# EAGLE library part OPA1644AID (library OPA1644AID)
OPA1641/1642/1644 SoundPLUS High-Performance, JFET-Input Audio OpAmps Source: Datasheet <http://www.ti.com/lit/gpn/opa1644>
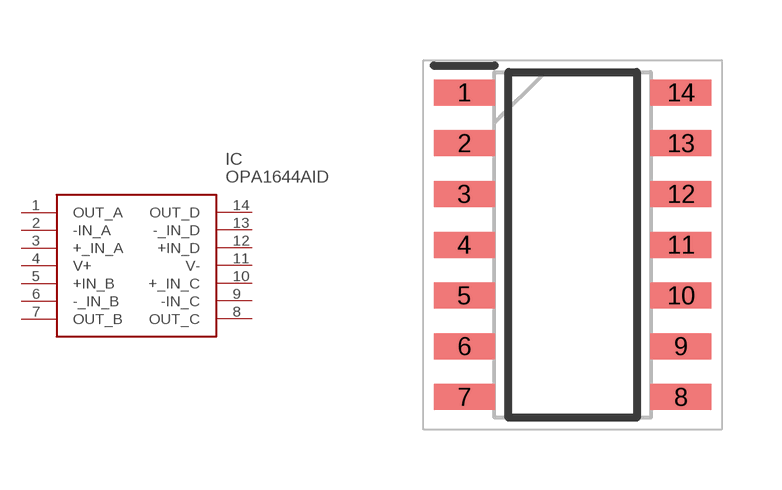
[diagram p0: symbol with the pads of SOIC127P600X175-14N; footprint SOIC127P600X175-14N]

Designator prefix IC

## OPA1644AID (Arrow_Part_Number: OPA1644AID; Arrow_Price-Stock: https://www.arrow.com/en/products/opa1644aid/texas-instruments?utm_currency=USD&region=nac; Description: OPA1641/1642/1644 SoundPLUS High-Performance, JFET-Input Audio OpAmps; Height: 1.75mm; Manufacturer_Name: Texas Instruments; Manufacturer_Part_Number: OPA1644AID; Mouser_Part_Number: 595-OPA1644AID; Mouser_Price-Stock: https://www.mouser.co.uk/ProductDetail/Texas-Instruments/OPA1644AID?qs=%2Fqzd9s%252BcLd4i%2FOCXbst%2F%252Bw%3D%3D)  [SOIC127P600X175-14N]
1  OUT_A
2  -IN_A
3  +_IN_A
4  V+
5  +IN_B
6  -_IN_B
7  OUT_B
8  OUT_C
9  -IN_C
10  +_IN_C
11  V-
12  +IN_D
13  -_IN_D
14  OUT_D

## Footprint SOIC127P600X175-14N (pad centres in mm)
D (-R-PDSO-G14)
smd 1.525 x 0.65: 1 -2.712,3.81; 2 -2.712,2.54; 3 -2.712,1.27; 4 -2.712,0; 5 -2.712,-1.27; 6 -2.712,-2.54; 7 -2.712,-3.81; 8 2.712,-3.81; 9 2.712,-2.54; 10 2.712,-1.27; 11 2.712,0; 12 2.712,1.27; 13 2.712,2.54; 14 2.712,3.81